# Altium footprint library LGA29_4x4.PcbLib: 1 footprints
Each footprint in its own frame and in the unit in brackets; x right, y up, seen from the top. Pads: shape width x height; smd on the part's side, far side on the other; paste and mask are expansions set on the pad; w line width, h text height; cw(c..) or ccw(c..) is an arc to the next point about the centre after c.
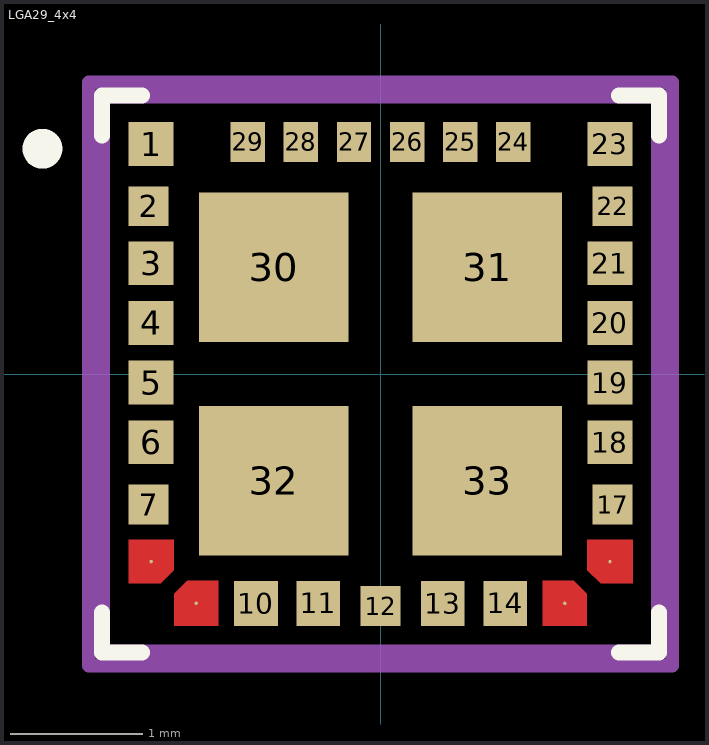
[diagram p0: the footprint, top view; thin cyan lines are the x and y axes]

## LGA29_4x4 [mm]
height 0.9
pads (33):
  rect 0.34x0.33 smd mask+0: 1(-1.73,1.735) 3(-1.73,0.835) 4(-1.73,0.385) 5(-1.73,-0.065) 6(-1.73,-0.515) 18(1.731,-0.515) 19(1.731,-0.065) 20(1.731,0.385) 21(1.731,0.835) 23(1.731,1.735)
  rect 0.3x0.3 smd mask+0: 2(-1.75,1.265) 7(-1.75,-0.985) 12(0,-1.75) 17(1.751,-0.985) 22(1.751,1.265)
  round 0.025 smd mask+0: 8(-1.73,-1.415) 9(-1.39,-1.73) 15(1.39,-1.73) 16(1.731,-1.415)
  rect 0.33x0.34 smd mask+0: 10(-0.94,-1.73) 11(-0.47,-1.73) 13(0.47,-1.73) 14(0.94,-1.73)
  rect 0.26x0.3 smd mask+0: 24(1,1.75) 25(0.6,1.75) 26(0.2,1.75) 27(-0.2,1.75) 28(-0.6,1.75) 29(-1,1.75)
  rect 1.13x1.13 smd paste-0.1 mask+0: 30(-0.805,0.805) 31(0.805,0.805) 32(-0.805,-0.805) 33(0.805,-0.805)
Top Layer:
  region: -1.9,-1.58 -1.9,-1.25 -1.56,-1.25 -1.56,-1.481 -1.659,-1.58
  region: 1.561,-1.481 1.561,-1.25 1.901,-1.25 1.901,-1.58 1.66,-1.58
  region: 1.225,-1.9 1.555,-1.9 1.555,-1.659 1.456,-1.56 1.225,-1.56
  region: -1.555,-1.9 -1.225,-1.9 -1.225,-1.56 -1.456,-1.56 -1.555,-1.659
Top Overlay:
  lines w0.12: -2.1,-1.8 -2.1,-2.1 -1.8,-2.1 ; -2.1,1.8 -2.1,2.1 -1.8,2.1 ; 1.8,-2.1 2.1,-2.1 2.1,-1.8 ; 1.8,2.1 2.1,2.1 2.1,1.8
  lines w0.2: -2.6,1.7 ccw(c-2.55,1.7) -2.5,1.7 ; -2.6,1.7 cw(c-2.55,1.7) -2.5,1.7 ; -2.6,1.7 ccw(c-2.55,1.7) -2.5,1.7
Top Courtyard:
  lines w0.12: -2.1,-2.1 -2.1,2.1 2.1,2.1 2.1,-2.1 -2.1,-2.1
Mechanical 15:
  lines w0.1: -2.2,-2.2 -2.2,2.2 2.2,2.2 2.2,-2.2 -2.2,-2.2
3D body: height 0.91, standoff 0, extent -2,-2 2,2